# EAGLE library part A6211GLJTR-T (library A6211GLJTR-T)
Led Driver 2A Buck Source: Datasheet <https://www.allegromicro.com/~/media/Files/Datasheets/A6211-Datasheet.ashx>
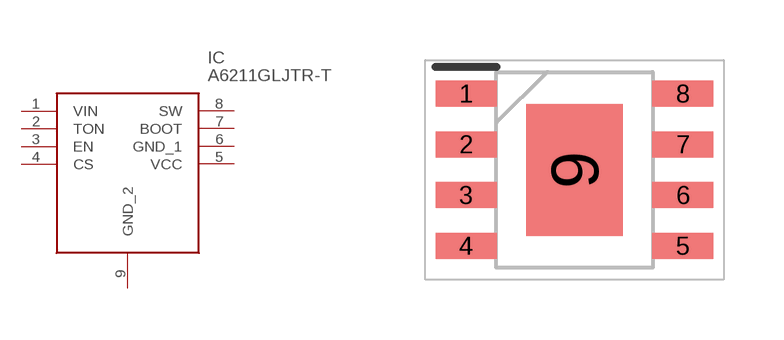
[diagram p0: symbol with the pads of SOIC127P600X170-9N; footprint SOIC127P600X170-9N]

Designator prefix IC

## A6211GLJTR-T (Arrow_Part_Number: A6211GLJTR-T; Arrow_Price-Stock: https://www.arrow.com/en/products/a6211gljtr-t/allegro-microsystems; Description: Led Driver 2A Buck; Height: 1.7mm; Manufacturer_Name: Allegro Microsystems; Manufacturer_Part_Number: A6211GLJTR-T; Mouser_Part_Number: 250-A6211GLJTR-T; Mouser_Price-Stock: https://www.mouser.co.uk/ProductDetail/Allegro-MicroSystems/A6211GLJTR-T?qs=pUKx8fyJudB6ktKC8t53Sg%3D%3D)  [SOIC127P600X170-9N]
1  VIN
2  TON
3  EN
4  CS
5  VCC
6  GND_1
7  BOOT
8  SW
9  GND_2

## Footprint SOIC127P600X170-9N (pad centres in mm)
LJ 8-Pin SOIC with Exposed Thermal Pad
smd 1.525 x 0.65: 1 -2.712,1.905; 2 -2.712,0.635; 3 -2.712,-0.635; 4 -2.712,-1.905; 5 2.712,-1.905; 6 2.712,-0.635; 7 2.712,0.635; 8 2.712,1.905
smd 2.41 x 3.3: 9 0,0